# EAGLE library part WFT0750CZ09 (library PartsForProto)
インターフェースピン
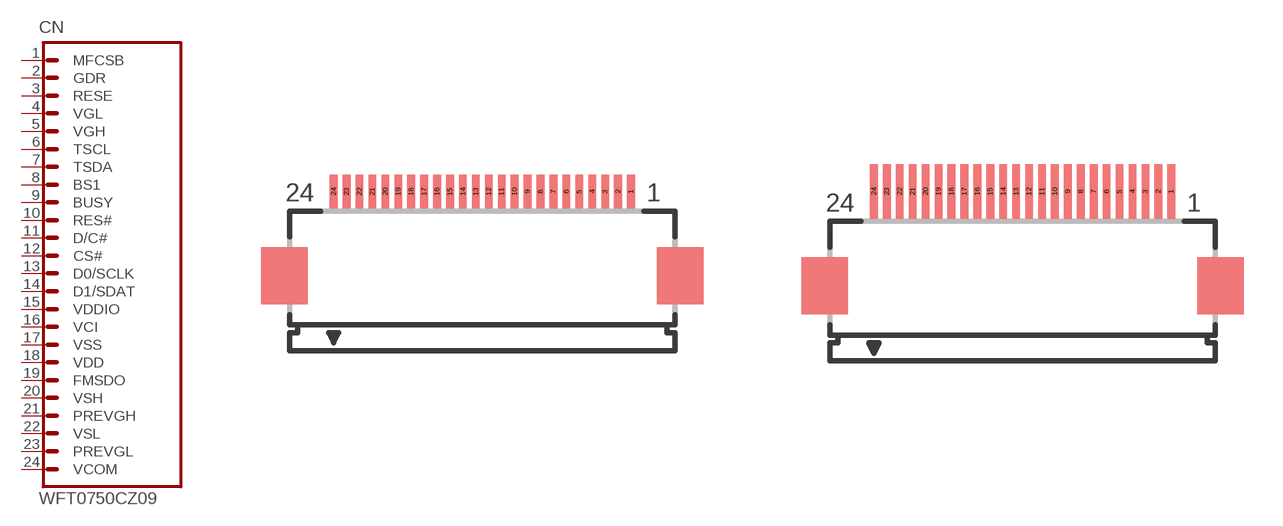
[diagram p22: symbol with the pads of FH12A-24S-0.5SH; footprints FH12A-24S-0.5SH, FH12A-24S-0.5SH_DEV]

Designator prefix CN

## WFT0750CZ09-SMD  [FH12A-24S-0.5SH]
1  MFCSB  in
2  GDR  out
3  RESE  out
4  VGL  pas
5  VGH  pas
6  TSCL  out
7  TSDA
8  BS1  in
9  BUSY  out
10  RES#  in
11  D/C#  in
12  CS#  in
13  D0/SCLK
14  D1/SDAT
15  VDDIO  pas
16  VCI  pas
17  VSS  pas
18  VDD  pas
19  FMSDO  out
20  VSH  pas
21  PREVGH  pas
22  VSL  pas
23  PREVGL  pas
24  VCOM  pas

## WFT0750CZ09-SMD_  [FH12A-24S-0.5SH_DEV]
Pads as for FH12A-24S-0.5SH

## Footprint FH12A-24S-0.5SH (pad centres in mm)
0.5mm Pitch Connectors For FPC/FFC Source: Data sheet <http://www.hirose.co.jp/cataloge_hp/e58605370.pdf>
smd 0.3 x 1.3: 1 5.75,3.25; 2 5.25,3.25; 3 4.75,3.25; 4 4.25,3.25; 5 3.75,3.25; 6 3.25,3.25; 7 2.75,3.25; 8 2.25,3.25; 9 1.75,3.25; 10 1.25,3.25; 11 0.75,3.25; 12 0.25,3.25; 13 -0.25,3.25; 14 -0.75,3.25; 15 -1.25,3.25; 16 -1.75,3.25; 17 -2.25,3.25; 18 -2.75,3.25; 19 -3.25,3.25; 20 -3.75,3.25; 21 -4.25,3.25; 22 -4.75,3.25; 23 -5.25,3.25; 24 -5.75,3.25

## Footprint FH12A-24S-0.5SH_DEV (pad centres in mm)
0.5mm Pitch Connectors For FPC/FFC 手はんだ用パターン padとstopを0.8mmずつ拡張しています。
smd 0.3 x 2.1: 1 5.75,3.65; 2 5.25,3.65; 3 4.75,3.65; 4 4.25,3.65; 5 3.75,3.65; 6 3.25,3.65; 7 2.75,3.65; 8 2.25,3.65; 9 1.75,3.65; 10 1.25,3.65; 11 0.75,3.65; 12 0.25,3.65; 13 -0.25,3.65; 14 -0.75,3.65; 15 -1.25,3.65; 16 -1.75,3.65; 17 -2.25,3.65; 18 -2.75,3.65; 19 -3.25,3.65; 20 -3.75,3.65; 21 -4.25,3.65; 22 -4.75,3.65; 23 -5.25,3.65; 24 -5.75,3.65